# Altium footprint library MY.PcbLib: 177 footprints (part 11 of 12)
Each footprint in its own frame and in the unit in brackets; x right, y up, seen from the top. Pads: shape width x height; smd on the part's side, far side on the other; paste and mask are expansions set on the pad; w line width, h text height; cw(c..) or ccw(c..) is an arc to the next point about the centre after c.
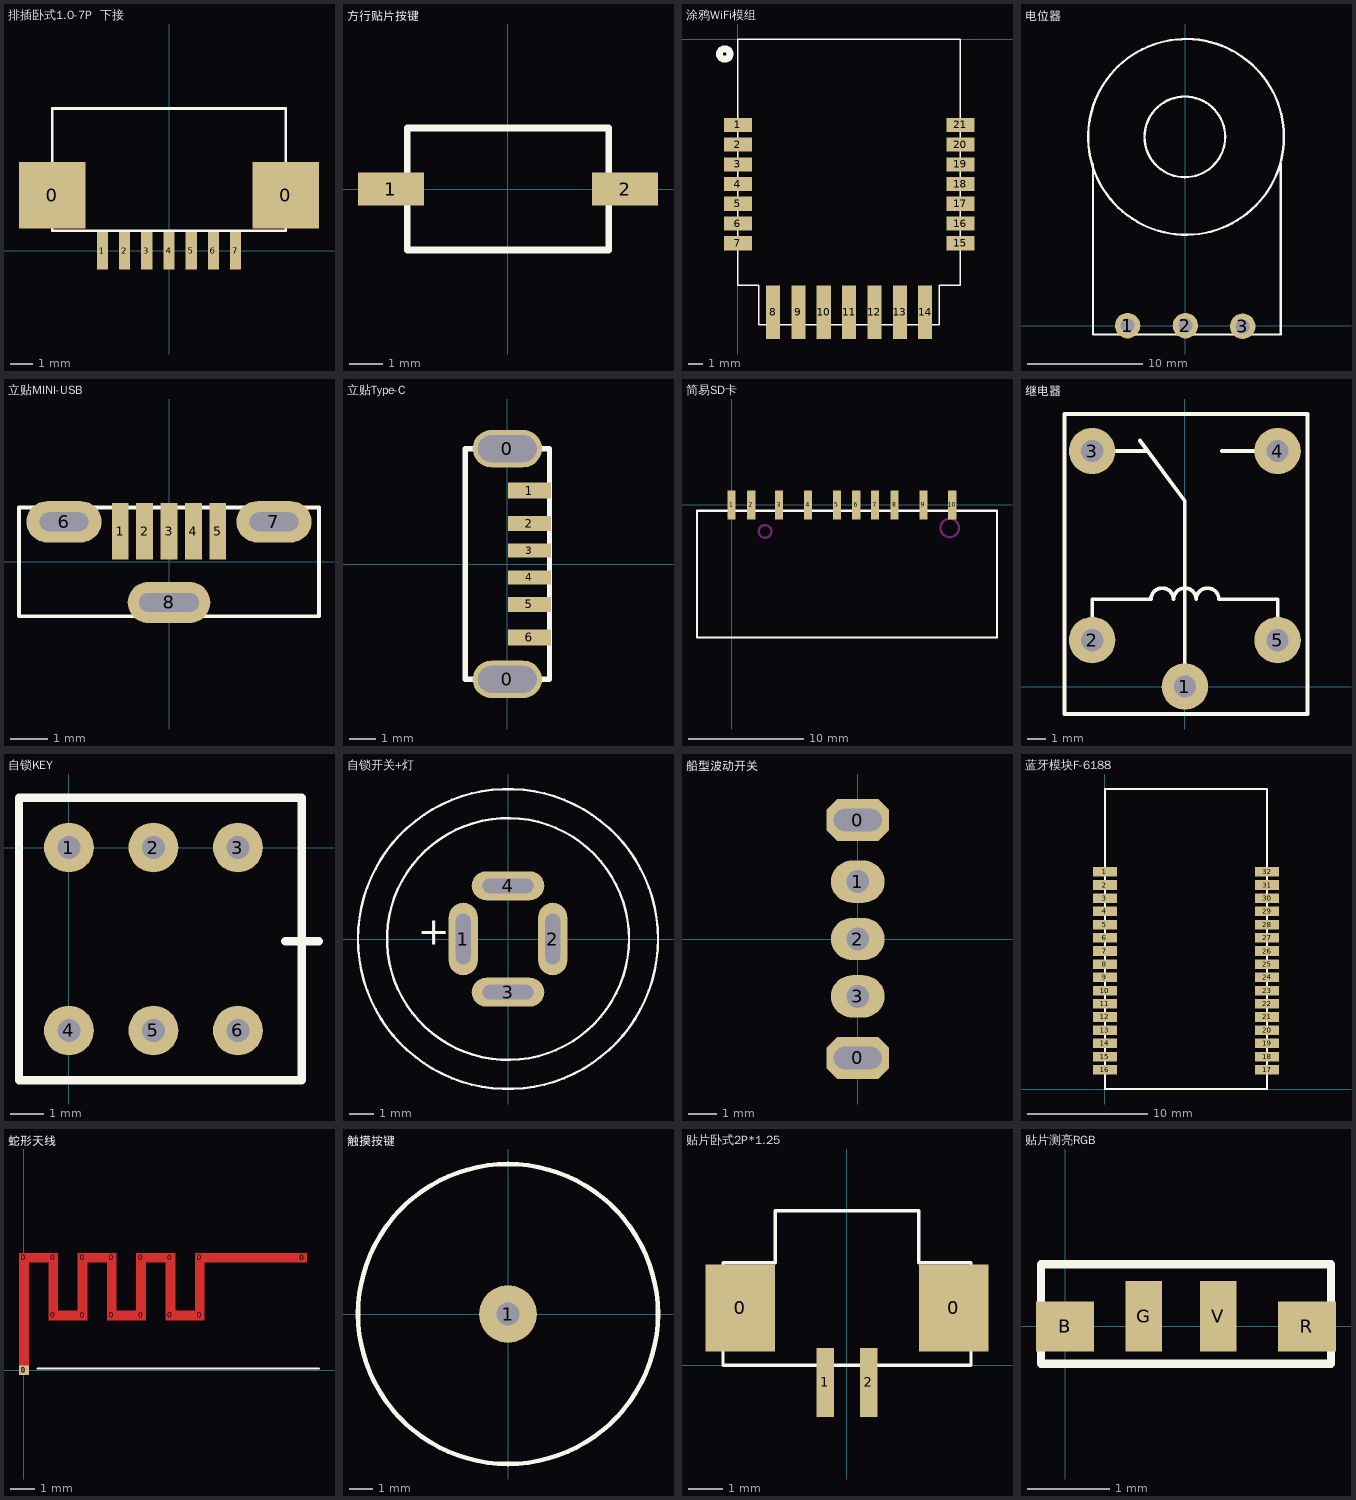
[diagram p10: the footprints below, top view; thin cyan lines are the x and y axes]

## 排插卧式1.0-7P  下接 [mm]
pads (9):
  rect 3x3 smd: 0(-5.25,2.5) 0(5.25,2.5)
  rect 0.5x1.7 smd: 1(-3,0) 2(-2,0) 3(-1,0) 4(0,0) 5(1,0) 6(2,0) 7(3,0)
Top Overlay:
  lines w0.127: -5.25,0.9 5.25,0.9 5.25,6.4 -5.25,6.4 -5.25,0.9

## 方行贴片按键 [mm]
pads (2):
  rect 2x1 smd: 1(-3.55,0) 2(3.55,0)
Top Overlay:
  lines w0.2: -3.05,-1.85 -3.05,1.85 3.05,1.85 3.05,-1.85 -3.05,-1.85

## 涂鸦WiFi模组 [mm]
pads (21):
  rect 2x1 smd: 1(0,-6.1) 2(0,-7.5) 3(0,-8.9) 4(0,-10.3) 5(0,-11.7) 6(0,-13.1) 7(0,-14.5) 15(15.8,-14.5) 16(15.8,-13.1) 17(15.8,-11.7) 18(15.8,-10.3) 19(15.8,-8.9) 20(15.8,-7.5) 21(15.8,-6.1)
  rect 1x3.8 smd: 8(2.5,-19.4) 9(4.3,-19.4) 10(6.1,-19.4) 11(7.9,-19.4) 12(9.7,-19.4) 13(11.5,-19.4) 14(13.3,-19.4)
Top Overlay:
  circle w0.5: c-0.929,-1.065 r0.371
  lines w0.1: 0,-17.5 0,0 15.8,0 15.8,-17.5 14.3,-17.5 14.3,-20.3 1.5,-20.3 1.5,-17.5 0,-17.5

## 电位器 [mil]
pads (3):
  round 87.01 hole 48: 1(-198,0) 3(196,-2)
  round 87 hole 48: 2(0,0)
Top Overlay:
  circle w8: c-2,646 r138
  circle w8: c2,646 r335
  lines w8: -316,552 -316,-30 326,-30 326,556

## 立贴MINI-USB [mm]
pads (8):
  rect 0.45x1.5 smd mask+0: 1(-1.3,0.82) 2(-0.65,0.82) 3(0,0.82) 4(0.65,0.82) 5(1.3,0.82)
  oval 2x1.1 hole 0.5 slot 1.3 at 0 deg: 6(-2.8,1.07) 7(2.8,1.07)
  oval 2.2x1.1 hole 0.5 slot 1.6 at 0 deg: 8(0,-1.08)
Top Overlay:
  lines w0.1: -4,-1.45 4,-1.45 4,1.45 -4,1.45 -4,-1.45

## 立贴Type-C [mm]
pads (8):
  oval 2.6x1.4 hole 1 slot 2.2 at 0 deg: 0(0,-4.32) 0(0,4.32)
  rect 1.6x0.6 smd: 1(0.83,2.75) 6(0.83,-2.75)
  rect 1.6x0.56 smd: 2(0.83,1.51) 5(0.83,-1.51)
  rect 1.6x0.52 smd: 3(0.83,0.5) 4(0.83,-0.5)
Top Overlay:
  lines w0.2: -1.58,-4.32 -1.58,4.32 1.58,4.32 1.58,-4.32 -1.58,-4.32

## 简易SD卡 [mm]
pads (10):
  rect 0.7x2.5 smd: 1(0,0) 2(1.7,0) 3(4.12,0) 4(6.62,0) 5(9.12,0) 6(10.8,0) 7(12.44,0) 8(14.12,0) 9(16.62,0) 10(19.12,0)
Top Overlay:
  lines w0.2: -3,-11.5 23,-11.5 23,-0.5 -3,-0.5 -3,-11.5
Keep-Out Layer:
  circle w0.2: c18.9,-2 r0.8
  circle w0.2: c2.9,-2.3 r0.55

## 继电器 [mm]
pads (5):
  round 2.5 hole 1.2: 1(0,0) 2(-5,2.5) 3(-5,12.7) 4(5,12.7) 5(5,2.5)
Top Overlay:
  lines w0.2: -5,2.5 -5,4.7 -1.831,4.7 cw(c-1.221,4.7) -0.61,4.7 cw(c0,4.7) 0.61,4.7 cw(c1.221,4.7) 1.831,4.7 5,4.7 5,2.5 ; -5,12.7 -2,12.7 ; -2.435,13.287 0,10 0,0 ; 2,12.7 5,12.7
  lines w0.203: -6.496,-1.48 6.616,-1.48 6.616,14.696 -6.496,14.696 -6.496,-1.48

## 自锁KEY [mm]
pads (6):
  round 1.5 hole 0.7: 1(0,0) 2(2.54,0) 3(5.08,0) 4(0,-5.5) 5(2.54,-5.5) 6(5.08,-5.5)
Top Overlay:
  lines w0.254: 6.501,-2.818 7.517,-2.818 ; -1.5,-7 -1.5,1.5 7,1.5 7,-7 -1.5,-7

## 自锁开关+灯 [mm]
pads (4):
  oval 1.2x3 hole 0.6 slot 2.1 at 90 deg: 1(-1.85,0) 2(1.85,0)
  oval 3x1.2 hole 0.6 slot 2.1 at 0 deg: 3(0,-2.2) 4(0,2.2)
Top Overlay:
  circle w0.1: c0,0 r5
  circle w0.1: c0,0 r6.2
  text "+" at -3.734,-0.635 h2

## 船型波动开关 [mm]
pads (5):
  oct 2.2x1.5 hole 0.8 slot 1.7 at 0 deg: 0(0,4.216) 0(0,-4.216)
  oval 1.9x1.5 hole 0.81: 1(0,2.032) 2(0,0) 3(0,-2.032)
Bottom Overlay:
  lines w0.203: -2.235,-4.547 2.311,-4.547 ; -2.235,0.076 2.311,0.076 ; -2.235,4.547 2.311,4.547
  lines w0.305: -3.073,-1.194 -2.261,-1.194 ; -3.073,1.143 -2.235,1.143 ; -2.438,-3.302 -2.438,-4.47 -2.032,-4.47 -2.032,-3.226 -2.057,-3.226 ; -2.235,-1.067 -2.235,0.991 ; -2.235,-0.229 -2.235,-5.283 1.143,-5.283 ; -2.235,0.229 -2.235,5.283 1.143,5.283 ; -2.235,4.521 -2.438,4.521 ; -0.381,-5.283 2.311,-5.283 2.311,0.254 ; -0.381,5.283 2.311,5.283 2.311,-0.254 ; -2.438,4.521 -2.032,4.521 -2.032,-3.556 -2.438,-3.556 -2.438,4.521

## 蓝牙模块F-6188 [mm]
pads (32):
  rect 2x0.8 smd: 1(0,18.1) 2(0,17) 3(0,15.9) 4(0,14.8) 5(0,13.7) 6(0,12.6) 7(0,11.5) 8(0,10.4) 9(0,9.3) 10(0,8.2) 11(0,7.1) 12(0,6) 13(0,4.9) 14(0,3.8) 15(0,2.7) 16(0,1.6) 17(13.5,1.6) 18(13.5,2.7) 19(13.5,3.8) 20(13.5,4.9) 21(13.5,6) 22(13.5,7.1) 23(13.5,8.2) 24(13.5,9.3) 25(13.5,10.4) 26(13.5,11.5) 27(13.5,12.6) 28(13.5,13.7) 29(13.5,14.8) 30(13.5,15.9) 31(13.5,17) 32(13.5,18.1)
Top Overlay:
  lines w0.2: 0,0 0,25 13.5,25 13.5,0 0,0

## 蛇形天线 [mm]
pads (17):
  rect 0.4x0.4 on Top Solder: 0(0,0) 0(0,4.6) 0(1.2,4.6) 0(1.2,2.24) 0(2.4,2.24) 0(2.4,4.6) 0(3.6,4.6) 0(3.6,2.24) 0(4.8,2.24) 0(4.8,4.6) 0(6,4.6) 0(6,2.24) 0(7.2,4.6) 0(7.2,2.24) 0(11.4,4.6) 0(11.4,4.6)
  rect 0.4x0.4 smd: 1(0,0)
Top Layer:
  region: 7.4,4.8 7,4.8 7,4.4 7.4,4.4
  region: 7.4,2.44 7,2.44 7,2.04 7.4,2.04
  region: 6.2,2.44 5.8,2.44 5.8,2.04 6.2,2.04
  region: 6.2,4.8 5.8,4.8 5.8,4.4 6.2,4.4
  region: 5,4.8 4.6,4.8 4.6,4.4 5,4.4
  region: 5,2.44 4.6,2.44 4.6,2.04 5,2.04
  region: 3.8,2.44 3.4,2.44 3.4,2.04 3.8,2.04
  region: 2.6,2.44 2.2,2.44 2.2,2.04 2.6,2.04
  region: 1.4,2.44 1,2.44 1,2.04 1.4,2.04
  region: 0.2,0.2 -0.2,0.2 -0.2,-0.2 0.2,-0.2
  region: 11.6,4.8 11.2,4.8 11.2,4.4 11.6,4.4
  region: 0.2,4.8 -0.2,4.8 -0.2,4.4 0.2,4.4
  region: 1.4,4.8 1,4.8 1,4.4 1.4,4.4
  region: 2.6,4.8 2.2,4.8 2.2,4.4 2.6,4.4
  region: 3.8,4.8 3.4,4.8 3.4,4.4 3.8,4.4
  lines w0.4: 0,0 0,4.6 1.2,4.6 1.2,2.24 2.4,2.24 2.4,4.6 3.6,4.6 3.6,2.24 4.8,2.24 4.8,4.6 6,4.6 6,2.24 7.2,2.24 7.2,4.6 11.4,4.6
Top Overlay:
  lines w0.102: 0.57,0.069 12.082,0.069
Top Solder:
  lines w0.4: 0,0 0,4.6 1.2,4.6 1.2,2.24 2.4,2.24 2.4,4.6 3.6,4.6 3.6,2.24 4.8,2.24 4.8,4.6 6,4.6 6,2.24 7.2,2.24 7.2,4.6 11.4,4.6

## 触摸按键 [mm]
pads (1):
  round 2.5 hole 1: 1(0,0)
Top Overlay:
  circle w0.2: c0,0 r6.5

## 贴片卧式2P*1.25 [mm]
pads (4):
  rect 2x2.5 smd: 0(-3.075,1.65) 0(3.075,1.65)
  rect 0.5x2 smd: 1(-0.625,-0.5) 2(0.625,-0.5)
Top Overlay:
  lines w0.1: -3.575,0 3.575,0 3.575,2.95 2.075,2.95 2.075,4.45 -2.075,4.45 -2.075,2.95 -3.575,2.95 -3.575,0

## 贴片测亮RGB [mm]
pads (4):
  rect 0.7x0.6 smd: B(0,0) R(2.92,0)
  rect 0.44x0.85 smd: G(0.95,0.125) V(1.85,0.125)
Top Overlay:
  lines w0.1: -0.29,-0.45 3.21,-0.45 3.21,0.75 -0.29,0.75 -0.29,-0.45